# Altium footprint library TSOT23-5.PcbLib: 1 footprints
Each footprint in its own frame and in the unit in brackets; x right, y up, seen from the top. Pads: shape width x height; smd on the part's side, far side on the other; paste and mask are expansions set on the pad; w line width, h text height; cw(c..) or ccw(c..) is an arc to the next point about the centre after c.
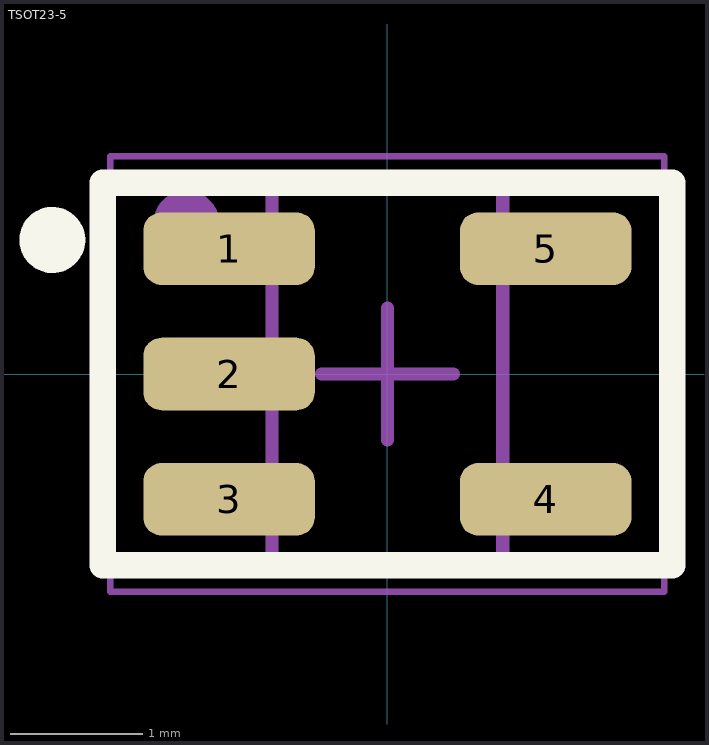
[diagram p0: the footprint, top view; thin cyan lines are the x and y axes]

## TSOT23-5 [mm]
pads (5):
  rrect50% 1.3x0.55 smd: 1(-1.2,0.95) 2(-1.2,0) 3(-1.2,-0.95) 4(1.2,-0.95) 5(1.2,0.95)
Top Overlay:
  circle w0.25: c-2.54,1.016 r0.125
  lines w0.2: -2.159,-1.45 -2.159,1.45 2.159,1.45 2.159,-1.45 -2.159,-1.45
Mechanical 1:
  circle w0.25: c-1.524,1.143 r0.125
  text ".Designator" at 0,0.113 h0.6
Mechanical 13:
  lines w0.1: -0.875,-1.45 0.875,-1.45 0.875,1.45 -0.875,1.45 -0.875,-1.45
Mechanical 15:
  lines w0.05: -2.1,-1.651 2.1,-1.651 2.1,1.651 -2.1,1.651 -2.1,-1.651
  lines w0.1: -0.5,0 0.5,0 ; 0,-0.5 0,0.5
3D body "User Library-tsot-23-5.STEP": height 0.85, standoff -0.13, extent -1.399,-1.476 1.399,1.424